# EAGLE library part ATTINY84A-PU (library elric)
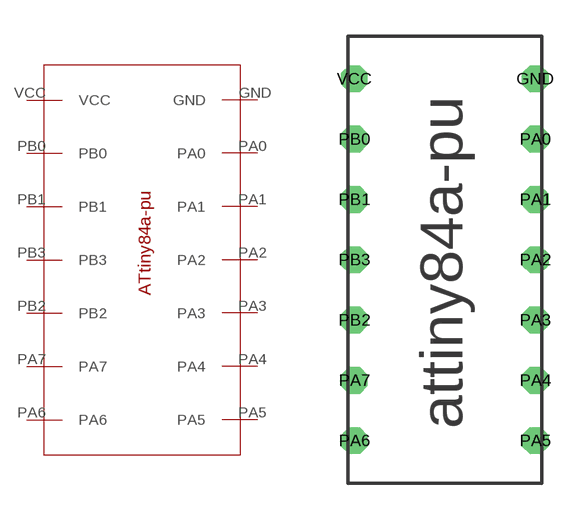
[diagram p1: symbol with the pads of ATTINY84A-PU; footprint ATTINY84A-PU]

Designator prefix -

## ATTINY84A-PU  [ATTINY84A-PU]
GND  GND
PA0  PA0
PA1  PA1
PA2  PA2
PA3  PA3
PA4  PA4
PA5  PA5
PA6  PA6
PA7  PA7
PB0  PB0
PB1  PB1
PB2  PB2
PB3  PB3
VCC  VCC

## Footprint ATTINY84A-PU (pad centres in mm)
drill 0.6 octagon: GND 7.5,0; PA0 7.5,-2.5; PA1 7.5,-5; PA2 7.5,-7.5; PA3 7.5,-10; PA4 7.5,-12.5; PA5 7.5,-15; PA6 0,-15; PA7 0,-12.5; PB0 0,-2.5; PB1 0,-5; PB2 0,-10; PB3 0,-7.5; VCC 0,0